# Altium footprint library alcotest_pcb_lib.PcbLib: 13 footprints
Each footprint in its own frame and in the unit in brackets; x right, y up, seen from the top. Pads: shape width x height; smd on the part's side, far side on the other; paste and mask are expansions set on the pad; w line width, h text height; cw(c..) or ccw(c..) is an arc to the next point about the centre after c.
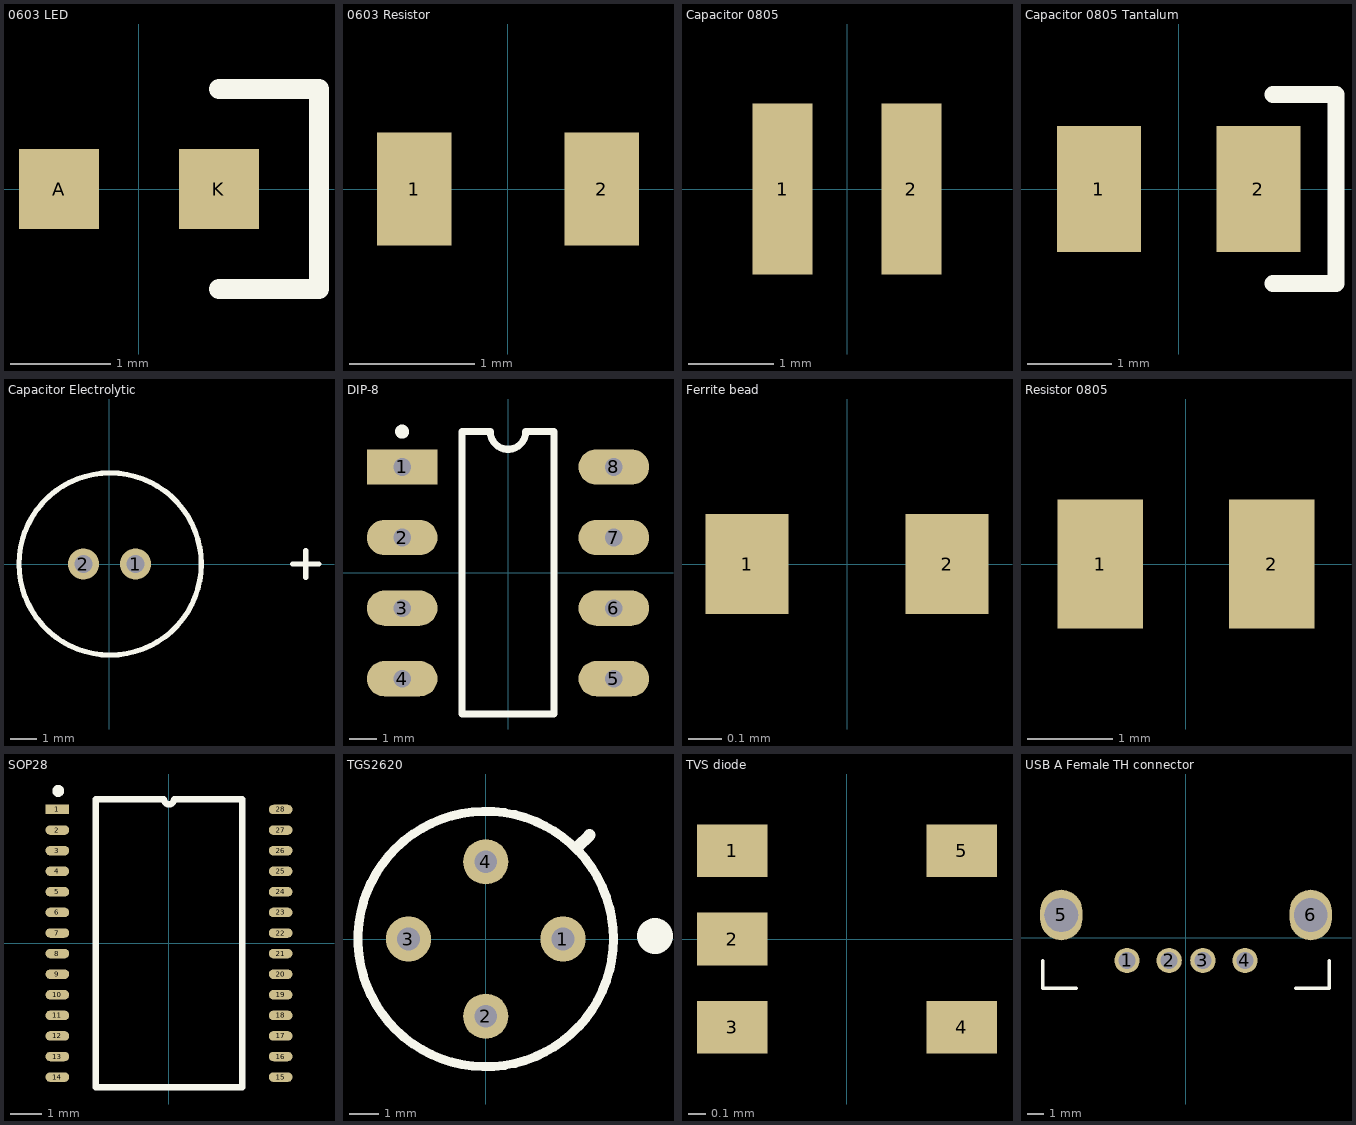
[diagram p0: the footprints below, top view; thin cyan lines are the x and y axes]

## 0603 LED [mm]
pads (2):
  rect 0.8x0.8 smd: A(-0.8,0) K(0.8,0)
Top Overlay:
  lines w0.2: 0.8,-1 1.8,-1 1.8,1 0.8,1
3D body "597-5004-407F.STEP": height 0.71, standoff 0.01, extent -0.8,-0.4 0.8,0.4

## 0603 Resistor [mm]
pads (2):
  rect 0.6x0.9 smd: 1(-0.75,0) 2(0.75,0)
3D body "CRG0603F100K.STEP": height 0.54, standoff -0.01, extent -0.8,-0.4 0.8,0.4

## Capacitor 0805 [mm]
pads (2):
  rect 0.7x2 smd: 1(-0.75,0) 2(0.75,0)
3D body "GCM21BR71H104KA37L.STEP": height 1.28, standoff 0.03, extent -1,-0.737 1,0.713

## Capacitor 0805 Tantalum [mm]
pads (2):
  rect 1x1.5 smd: 1(-0.95,0) 2(0.95,0)
Top Overlay:
  lines w0.2: 1.125,-1.125 1.875,-1.125 1.875,1.125 1.125,1.125
3D body "TAJR224K020RNJ.STEP": height 1.21, standoff 0.01, extent -1,-0.675 1.05,0.625

## Capacitor Electrolytic [mm]
pads (2):
  round 1.2 hole 0.7: 1(1,0) 2(-1,0)
Top Overlay:
  circle w0.2: c0.025,0 r3.5
  lines w0.2: 7.032,0 8.048,0 ; 7.54,-0.508 7.54,0.508
3D body "ECEA1HKS4R7.STEP": height 5.01, standoff -16.99, extent -2.498,-2.512 2.498,2.475

## DIP-8 [mm] "DIP-8 package footprint"
pads (8):
  rect 2.54x1.27 hole 0.635: 1(-3.81,3.81)
  oval 2.54x1.27 hole 0.635: 2(-3.81,1.27) 3(-3.81,-1.27) 4(-3.81,-3.81) 5(3.81,-3.81) 6(3.81,-1.27) 7(3.81,1.27) 8(3.81,3.81)
Top Overlay:
  circle w0.254: c-3.81,5.08 r0.127
  lines w0.254: -1.651,-5.08 -1.651,5.08 -0.635,5.08 ccw(c0,5.08) 0.635,5.08 1.651,5.08 1.651,-5.08 -1.651,-5.08
3D body "ATTINY85-20PU--3DModel-STEP-56544.STEP": height 4.97, standoff -4.18, extent -3.988,-4.585 3.886,4.686

## Ferrite bead [mm]
pads (2):
  rect 0.25x0.3 smd mask+0.05: 1(-0.3,0) 2(0.3,0)
3D body "BLM03AG100SN1D.STEP": height 0.3, standoff 0, extent -0.3,-0.155 0.3,0.175

## PCBComponent_1 [mm]

## Resistor 0805 [mm]
pads (2):
  rect 1x1.5 smd: 1(-1,0) 2(1,0)
3D body "CRGCQ0805J680K.STEP": height 0.63, standoff -0.02, extent -1,-0.625 1,0.625

## SOP28 [mm]
pads (28):
  rect 0.75x0.3 smd: 1(-3.525,4.225)
  oval 0.75x0.3 smd: 2(-3.525,3.575) 3(-3.525,2.925) 4(-3.525,2.275) 5(-3.525,1.625) 6(-3.525,0.975) 7(-3.525,0.325) 8(-3.525,-0.325) 9(-3.525,-0.975) 10(-3.525,-1.625) 11(-3.525,-2.275) 12(-3.525,-2.925) 13(-3.525,-3.575) 14(-3.525,-4.225) 15(3.525,-4.225) 16(3.525,-3.575) 17(3.525,-2.925) 18(3.525,-2.275) 19(3.525,-1.625) 20(3.525,-0.975) 21(3.525,-0.325) 22(3.525,0.325) 23(3.525,0.975) 24(3.525,1.625) 25(3.525,2.275) 26(3.525,2.925) 27(3.525,3.575) 28(3.525,4.225)
Top Overlay:
  circle w0.254: c-3.497,4.811 r0.06
  lines w0.2: -2.315,-4.55 2.315,-4.55 2.315,4.55 0.162,4.55 cw(c0,4.55) -0.162,4.55 -2.315,4.55 -2.315,-4.55
3D body "FT232RL.STEP": height 1.86, standoff -0.14, extent -3.9,-5.1 3.9,5.1

## TGS2620 [mil] "Figaro TGS2620 gas sensor"
pads (4):
  round 60 hole 30: 1(102.36,0) 2(0,-102.36) 3(-102.36,0) 4(0,102.36)
Top Overlay:
  circle w39.37: c224.41,3.94 r3.94
  circle w11.81: c0,0 r169.29
  lines w10: 114.17,125.98 ccw(c114.17,125.98) 114.17,125.98
  lines w15.75: 122.05,122.05 137.8,137.8
3D body "TGS2600--3DModel-STEP-56544 (1).STEP": height 327.27, standoff -432.57, extent -256.12,-256.12 267.25,267.25

## TVS diode [mm] "TVS diode in SOT5 package."
pads (5):
  rect 0.4x0.3 smd mask+0.05: 1(-0.65,0.5) 2(-0.65,0) 4(0.65,-0.5) 5(0.65,0.5)
  rect 0.4x0.3 smd paste-2539.97 mask+0.05: 3(-0.65,-0.5)
3D body "TPD3E001DRLR.STEP": height 0.56, standoff -0.04, extent -0.8,-0.8 0.8,0.8

## USB A Female TH connector [mm] "USB A Female TH connector"
pads (6):
  round 1.5 hole 1: 1(-3.5,-1.35) 2(-1,-1.35) 3(1,-1.35) 4(3.5,-1.35)
  oval 2.5x3 hole 2: 5(-7.4,1.35) 6(7.4,1.35)
Top Overlay:
  lines w0.2: -8.5,-1.35 -8.5,-3 -6.5,-3 ; 6.5,-3 8.5,-3 8.5,-1.35
3D body "USB-A-S-F-W-TH.stp": height 8.39, standoff -3.51, extent -7.774,-2.35 7.974,11.75